# Altium footprint library Components - 02.10.25 - 08.26.PcbLib: 1 footprints
Each footprint in its own frame and in the unit in brackets; x right, y up, seen from the top. Pads: shape width x height; smd on the part's side, far side on the other; paste and mask are expansions set on the pad; w line width, h text height; cw(c..) or ccw(c..) is an arc to the next point about the centre after c.
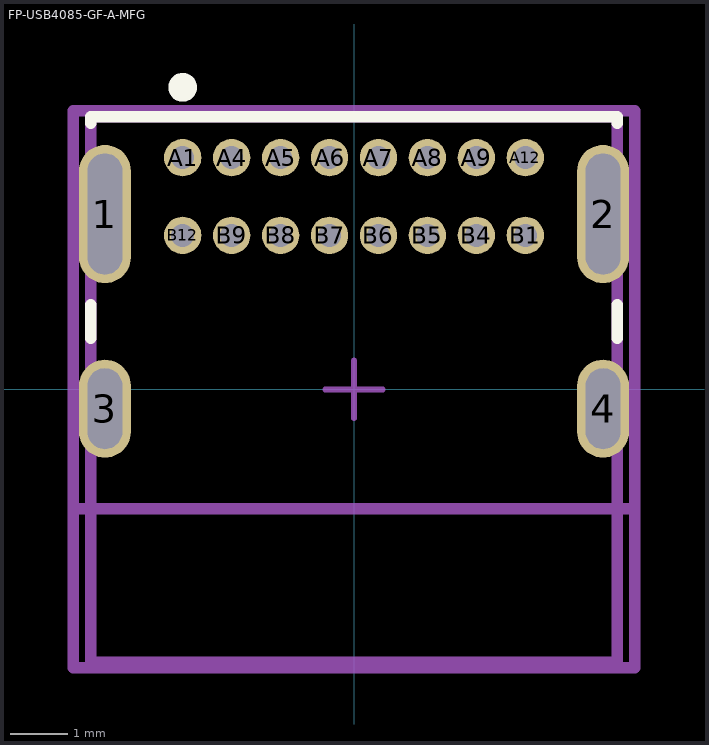
[diagram p0: the footprint, top view; thin cyan lines are the x and y axes]

## FP-USB4085-GF-A-MFG [mm]
pads (20):
  rrect100% 0.9x2.4 hole 2.1 slot 0.6 at 0 deg paste-2539.97 mask+0: 1(-4.325,3.045) 2(4.325,3.045)
  rrect100% 0.9x1.7 hole 1.4 slot 0.6 at 0 deg paste-2539.97 mask+0: 3(-4.325,-0.335) 4(4.325,-0.335)
  round 0.65 hole 0.4 paste-2539.97 mask+0: A1(-2.975,4.025) A4(-2.125,4.025) A5(-1.275,4.025) A6(-0.425,4.025) A7(0.425,4.025) A8(1.275,4.025) A9(2.125,4.025) A12(2.975,4.025) B1(2.975,2.675) B4(2.125,2.675) B5(1.275,2.675) B6(0.425,2.675) B7(-0.425,2.675) B8(-1.275,2.675) B9(-2.125,2.675) B12(-2.975,2.675)
Top Overlay:
  circle w0.25: c-2.975,5.245 r0.125
  lines w0.2: -4.575,0.89 -4.575,1.47 ; -4.575,4.62 -4.575,4.735 4.575,4.735 4.575,4.62 ; 4.575,0.89 4.575,1.47
Top Assembly:
  lines w0.2: -4.875,-4.835 -4.875,4.835 4.875,4.835 4.875,-4.835 -4.875,-4.835
  text ".Designator" at 0,0.188 h1
Top 3D Body:
  lines w0.2: -4.875,-2.075 4.875,-2.075 ; -4.575,-4.735 -4.575,4.735 4.575,4.735 4.575,-4.735 -4.575,-4.735
Top Courtyard:
  lines w0.2: -4.875,-4.835 -4.875,4.835 4.875,4.835 4.875,-4.835 -4.875,-4.835
Top Component Center:
  lines w0.1: -0.5,0 0.5,0 ; 0,-0.5 0,0.5
3D body "Conn_GCT_USB4085-GF-A_eec.STEP": height 0.25, standoff 0, extent -4.875,-4.835 4.875,4.835